# EAGLE library part LM3478 (library imu1)
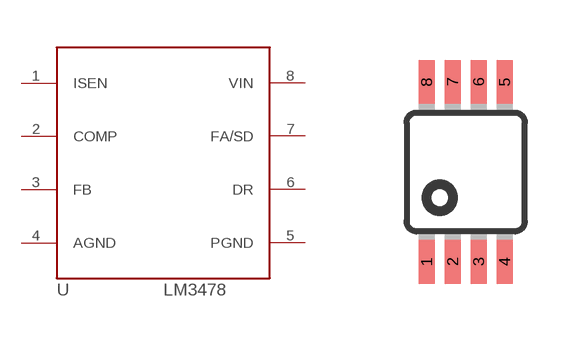
[diagram p0: symbol with the pads of MSOP8; footprint MSOP8]

Designator prefix -

## LM3478  [MSOP8]
1  ISEN
2  COMP
3  FB
4  AGND
5  PGND
6  DR
7  FA/SD
8  VIN

## Footprint MSOP8 (pad centres in mm)
8M, 8-Lead, 0.118" Wide, Miniature Small Outline Package MSOP 8M-Package doc1097.pdf
smd 0.4 x 1.1: 1 -0.975,-2.25; 2 -0.325,-2.25; 3 0.325,-2.25; 4 0.975,-2.25; 5 0.975,2.25; 6 0.325,2.25; 7 -0.325,2.25; 8 -0.975,2.25